# EAGLE library part MOLEX_MICROSD (library sharkdunio)
molex 1040310811 uSD slot
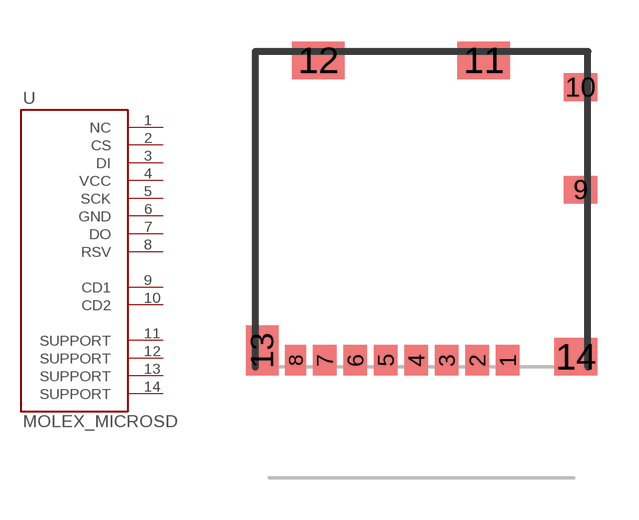
[diagram p3: symbol with the pads of MOLEX_MICROSD; footprint MOLEX_MICROSD]

Designator prefix -

## MOLEX_MICROSD  [MOLEX_MICROSD]
1  NC  nc
2  CS  in
3  DI  in
4  VCC  pwr
5  SCK
6  GND  pwr
7  DO  out
8  RSV
9  CD1
10  CD2
11  SUPPORT  pwr
12  SUPPORT  pwr
13  SUPPORT  pwr
14  SUPPORT  pwr

## Footprint MOLEX_MICROSD (pad centres in mm)
smd 0.85 x 1.1: 1 3.105,0.25; 2 2.005,0.25; 3 0.905,0.25; 4 -0.195,0.25; 5 -1.295,0.25; 6 -2.395,0.25; 7 -3.495,0.25
smd 0.75 x 1.1: 8 -4.545,0.25
smd 1.2 x 1: 9 5.74,6.4; 10 5.74,10.1
smd 1.9 x 1.35: 11 2.24,11.075; 12 -3.73,11.075
smd 1.17 x 1.8: 13 -5.755,0.6
smd 1.55 x 1.35: 14 5.565,0.375